# EAGLE library part USB6B1RL (library BLDCBOMv4)
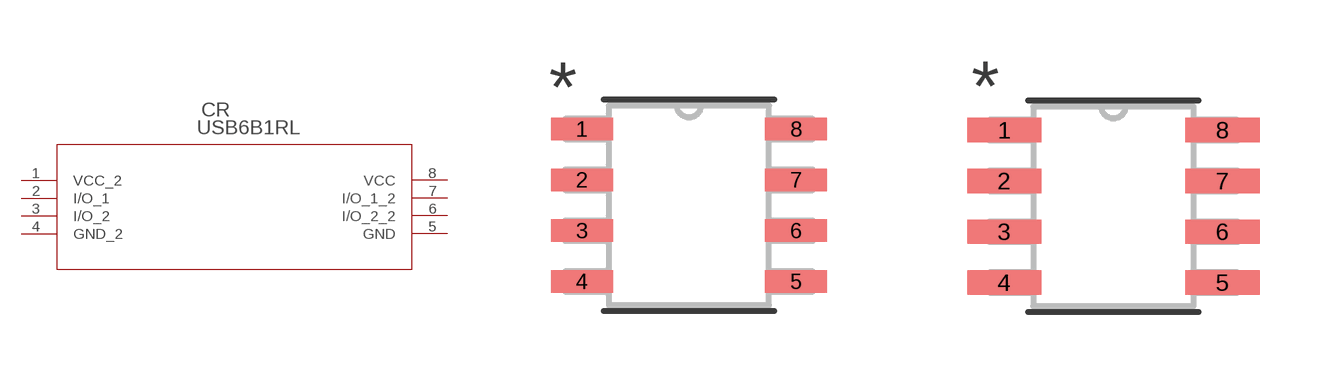
[diagram p3: symbol with the pads of SO-8; footprints SO-8, SO-8-M]

Designator prefix CR

## USB6B1RL (BUILT_BY: EMA_UL_Team; MANUFACTURER_PART_NUMBER: USB6B1RL; VENDOR: STMicroelectronics)  [SO-8]
1  VCC_2  pwr
2  I/O_1
3  I/O_2
4  GND_2  pwr
5  GND  pwr
6  I/O_2_2
7  I/O_1_2
8  VCC  pwr

## USB6B1RLSO-8-M (BUILT_BY: EMA_UL_Team; MANUFACTURER_PART_NUMBER: USB6B1RL; VENDOR: STMicroelectronics)  [SO-8-M]
Pads as for SO-8

## USB6B1RLSO-8-L (BUILT_BY: EMA_UL_Team; MANUFACTURER_PART_NUMBER: USB6B1RL; VENDOR: STMicroelectronics)  [SO-8-L]
Pads as for SO-8

## Footprint SO-8 (pad centres in mm)
smd 1.549 x 0.559: 1 -2.68,1.905; 2 -2.68,0.635; 3 -2.68,-0.635; 4 -2.68,-1.905; 5 2.68,-1.905; 6 2.68,-0.635; 7 2.68,0.635; 8 2.68,1.905

## Footprint SO-8-M (pad centres in mm)
smd 1.854 x 0.61: 1 -2.731,1.905; 2 -2.731,0.635; 3 -2.731,-0.635; 4 -2.731,-1.905; 5 2.731,-1.905; 6 2.731,-0.635; 7 2.731,0.635; 8 2.731,1.905

## Footprint SO-8-L (pad centres in mm)
smd 1.245 x 0.508: 1 -2.629,1.905; 2 -2.629,0.635; 3 -2.629,-0.635; 4 -2.629,-1.905; 5 2.629,-1.905; 6 2.629,-0.635; 7 2.629,0.635; 8 2.629,1.905